# Altium schematic symbol library MCP25625T-E_SS.SchLib: 1 symbol
Pins are listed as number, name and electrical type; pins without a type are passive.

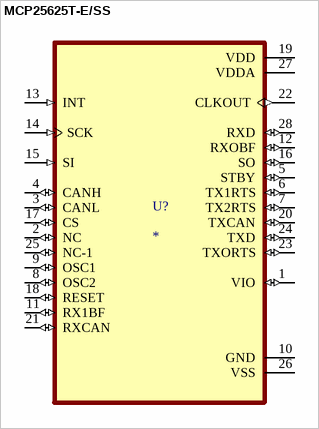
[diagram p0: symbol MCP25625T-E/SS]

## MCP25625T-E/SS
designator U?
MF: {'manufacturer': u'Microchip'}; MP: MCP25625T-E/SS; Package: None; Price: None; Value: *; Availability: Unavailable
footprint SOP65P780X200-28N
pins: 1 VIO (io), 2 NC (io), 3 CANL (io), 4 CANH (io), 5 STBY (io), 6 TX1RTS (io), 7 TX2RTS (io), 8 OSC2 (io), 9 OSC1 (io), 10 GND (power), 11 RX1BF (io), 12 RXOBF (io), 13 INT (in), 14 SCK (in), 15 SI (in), 16 SO (io), 17 CS (io), 18 RESET (io), 19 VDD (power), 20 TXCAN (io), 21 RXCAN (io), 22 CLKOUT (out), 23 TXORTS (io), 24 TXD (io), 25 NC-1 (io), 26 VSS (power), 27 VDDA (power), 28 RXD (io)